# EAGLE library part 1.27MMCONTACT (library headers)
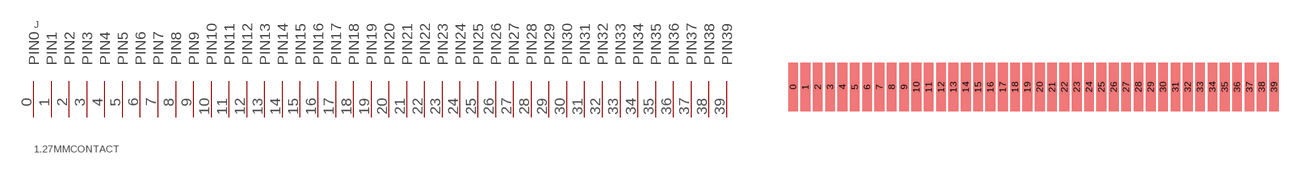
[diagram p0: symbol with the pads of 1.27MMCONTACT; footprint 1.27MMCONTACT]

Designator prefix J

## 1.27MMCONTACT  [1.27MMCONTACT]
0  PIN0
1  PIN1
2  PIN2
3  PIN3
4  PIN4
5  PIN5
6  PIN6
7  PIN7
8  PIN8
9  PIN9
10  PIN10
11  PIN11
12  PIN12
13  PIN13
14  PIN14
15  PIN15
16  PIN16
17  PIN17
18  PIN18
19  PIN19
20  PIN20
21  PIN21
22  PIN22
23  PIN23
24  PIN24
25  PIN25
26  PIN26
27  PIN27
28  PIN28
29  PIN29
30  PIN30
31  PIN31
32  PIN32
33  PIN33
34  PIN34
35  PIN35
36  PIN36
37  PIN37
38  PIN38
39  PIN39

## Footprint 1.27MMCONTACT (pad centres in mm)
smd 1 x 5: 0 -24.765,0; 1 -23.495,0; 2 -22.225,0; 3 -20.955,0; 4 -19.685,0; 5 -18.415,0; 6 -17.145,0; 7 -15.875,0; 8 -14.605,0; 9 -13.335,0; 10 -12.065,0; 11 -10.795,0; 12 -9.525,0; 13 -8.255,0; 14 -6.985,0; 15 -5.715,0; 16 -4.445,0; 17 -3.175,0; 18 -1.905,0; 19 -0.635,0; 20 0.635,0; 21 1.905,0; 22 3.175,0; 23 4.445,0; 24 5.715,0; 25 6.985,0; 26 8.255,0; 27 9.525,0; 28 10.795,0; 29 12.065,0; 30 13.335,0; 31 14.605,0; 32 15.875,0; 33 17.145,0; 34 18.415,0; 35 19.685,0; 36 20.955,0; 37 22.225,0; 38 23.495,0; 39 24.765,0